# Altium schematic symbol library Transistors_Relays.SchLib: 7 symbols
Pins are listed as number, name and electrical type; pins without a type are passive.

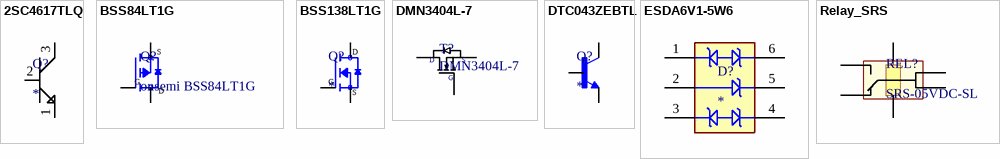
[diagram p0: symbols 2SC4617TLQ to Relay_SRS]

## 2SC4617TLQ
designator Q?
NPN - Bipolar (BJT) Transistor 50V 150mA 180MHz 200mW Surface Mount SOT-416; val: 2SC4617TLQ; note: *; sample link: https://www.lcsc.com/product-detail/C308648.html?s_z=n_2SC4617TLQ
footprint TRANS_2SK3019TL
pins: 1 E, 2 B, 3 C

## BSS84LT1G
designator Q?, comment onsemi BSS84LT1G
P-Channel 50V 130mA 225mW Surface Mount SOT-23; val: onsemi BSS84LT1G; note: *; sample link: https://www.lcsc.com/product-detail/C82079.html?s_z=n_BSS84%2520
footprint SOT95P237X111-3N
pins: 1 G, 2 S, 3 D

## BSS138LT1G
designator Q?
N-Channel 50 V 200mA (Ta) 225mW (Ta) Surface Mount SOT-23-3 (TO-236); val: onsemi BSS138LT1G; note: *; sample link: https://www.lcsc.com/product-detail/C82045.html?s_z=n_BSS138
footprint SOT95P237X111-3N
pins: 1 G, 2 S, 3 D

## DMN3404L-7
designator T?
N-Channel 30V 5.8A 1.4W Surface Mount SOT-23; note: Original; val: DMN3404L-7; sample link: https://www.lcsc.com/product-detail/MOSFETs_Diodes-Incorporated-DMN3404L-7_C155257.html
footprint SOT23-3 (SOT23, 3-Leads, Body 2,95x2,45mm, Pitch 0,95mm, IPC Medium Density)
pins: 1, 2, 3
text: D; S; G

## DTC043ZEBTL
designator Q?
NPN - Pre-Biased Bipolar Transistor (BJT) - Pre-Biased 50 V 100 mA 250 MHz 150 mW Surface Mount EMT3F (SOT-416FL); val: DTC043ZEBTL; note: *; sample link: https://www.lcsc.com/product-detail/C96459.html?s_z=n_DTC043ZEBTL
footprint SOTFL50P160X85-3N
pins: 1 B, 2 E, 3 C

## ESDA6V1-5W6
designator D?
TVS - Clamp - Ipp Tvs Diode Surface Mount SOT-323-6L; MF: STMicroelectronics; MP: ESDA6V1-5W6; Package: SOT-323 STMicroelectronics; Price: None; Check_prices: https://www.snapeda.com/parts/ESDA6V1-5W6/STMicroelectronics/view-part/?ref=eda; Value: *; SnapEDA_Link: https://www.snapeda.com/parts/ESDA6V1-5W6/STMicroelectronics/view-part/?ref=snap; Availability: In Stock; Purchase-URL: https://pricing.snapeda.com/search?q=ESDA6V1-5W6&ref=eda
footprint DIO_ESDA6V1-5W6
pins: 1, 2, 3, 4, 5, 6

## Relay_SRS
designator REL?, comment SRS-05VDC-SL
Relay; note: from link; val: SRS-05VDC-SL; sample link: https://item.taobao.com/item.htm?abbucket=9&id=584207393810&ns=1&pisk=fOCshR1kmcm_f02aFqUeApZL-qAX1iNrfqTArZhZkCd9D9_lchz0ICWBcMIBXfzgIKKfjCpcQn-wcI_cVyrza77GSIAT4uPy8hfZ6CLtMKKTkvLvk5ZULD7GSIxx8mePpNmfnEhjBEKYRBLXuAdvBIHKJHYjDfIvXpnpPUAvMIIv9vLDkfKvBhhdJHYSDjpvMDKp7EmvWIIAJyTmaHnBuRTA5yWfbIG_9k7wAjhSxF9tLNkqGj6BWd1AbHTe86T6C39IPz716M7A_1v3KvRc8TsfHgEEQhBWPM9PCuG1VGYAAC58oRvHHs1X-9qjh36A7TXvdPFORCt6dF9s5xd1HGfXIOg0rwdOxTxkBJqHR15yh3vIvlQFRhp5hGrnMhW5JM9PTDlywTjCGLdR4jGyVVP-h29oGetzRyMmnw-0NsrQIcrwBeYTayaIAxv9-etzRyMmndLHW9zQRDMc.&priceTId=2100c82317333083994452978e0ba9&spm=a21n57.1.item.10.4f18523cpBxeOA&utparam=%7B%22aplus_abtest%22%3A%22f53ef0514aa7d22871c3bb8e7bbeef31%22%7D&xxc=taobaoSearch&sku_properties=1627207%3A124880741
footprint Relay_SRS
pins: 1, 2, 3, 4, 5, 6